# EAGLE library part DS2438 (library 1wire)
Smart Battery Monitor This is an A/D converter, temperature sensor, EEPROM in one chip. One may mount it directly into the battery pack to monitor temperature and voltage of. The chip can monitor the loading of the battery through its current sensor pins, too. An additional A/D pin may be connected to additonal external circuit. Notes: This chip is a little more sophisticated than the DS2436. Please read the datasheet. The DS2436 is a similar chip with less features. Author: Jan Kandziora <jjj@gmx.de>
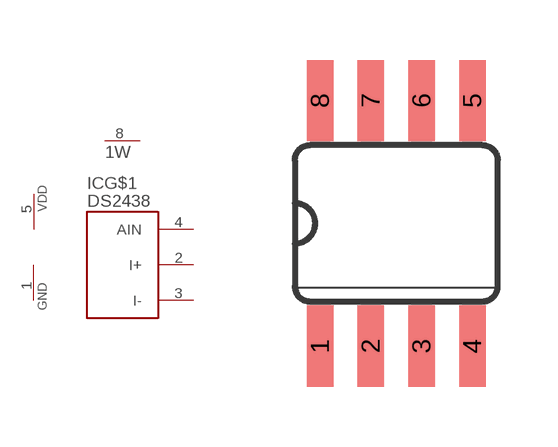
[diagram p10: symbol with the pads of SO08; footprint SO08]

Designator prefix IC; gates G$1=DS2438 _1W=1W P=VDD-GND

## DS2438Z  [SO08]
1  P:GND  pwr
2  G$1:I+  in
3  G$1:I-  in
4  G$1:AIN  in
5  P:VDD  pwr
8  _1W:1W  pwr

## Footprint SO08 (pad centres in mm)
Small Outline Package
smd 0.66 x 2.032: 1 -1.905,-3.073; 2 -0.635,-3.073; 3 0.635,-3.073; 4 1.905,-3.073; 5 1.905,3.073; 6 0.635,3.073; 7 -0.635,3.073; 8 -1.905,3.073